# Altium integrated library V0805-SMD-R__Red_.IntLib: 1 symbol
Pins are listed as number, name and electrical type; pins without a type are passive.

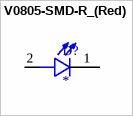
[diagram p0: symbol V0805-SMD-R_(Red)]

## V0805-SMD-R_(Red)
designator D?
V0805 - Valcon 0805 Type Surface Mount LED; MP: V0805-SMD-R (Red); MF: Valcon; Price: None; Purchase-URL: https://pricing.snapeda.com/search/part/V0805-SMD-R (Red)/?ref=eda; SnapEDA_Link: https://www.snapeda.com/parts/V0805-SMD-R%20(Red)/Valcon/view-part/4780809/?ref=snap; Availability: No availability data; Value: *; Check_prices: https://www.snapeda.com/parts/V0805-SMD-R%20(Red)/Valcon/view-part/4780809/?ref=eda; Package: None
footprint LED_V0805-SMD-R (Red)
pins: 1 C, 2 A